# Altium footprint library ConnectorsLib.PcbLib: 142 footprints (part 6 of 9)
Each footprint in its own frame and in the unit in brackets; x right, y up, seen from the top. Pads: shape width x height; smd on the part's side, far side on the other; paste and mask are expansions set on the pad; w line width, h text height; cw(c..) or ccw(c..) is an arc to the next point about the centre after c.
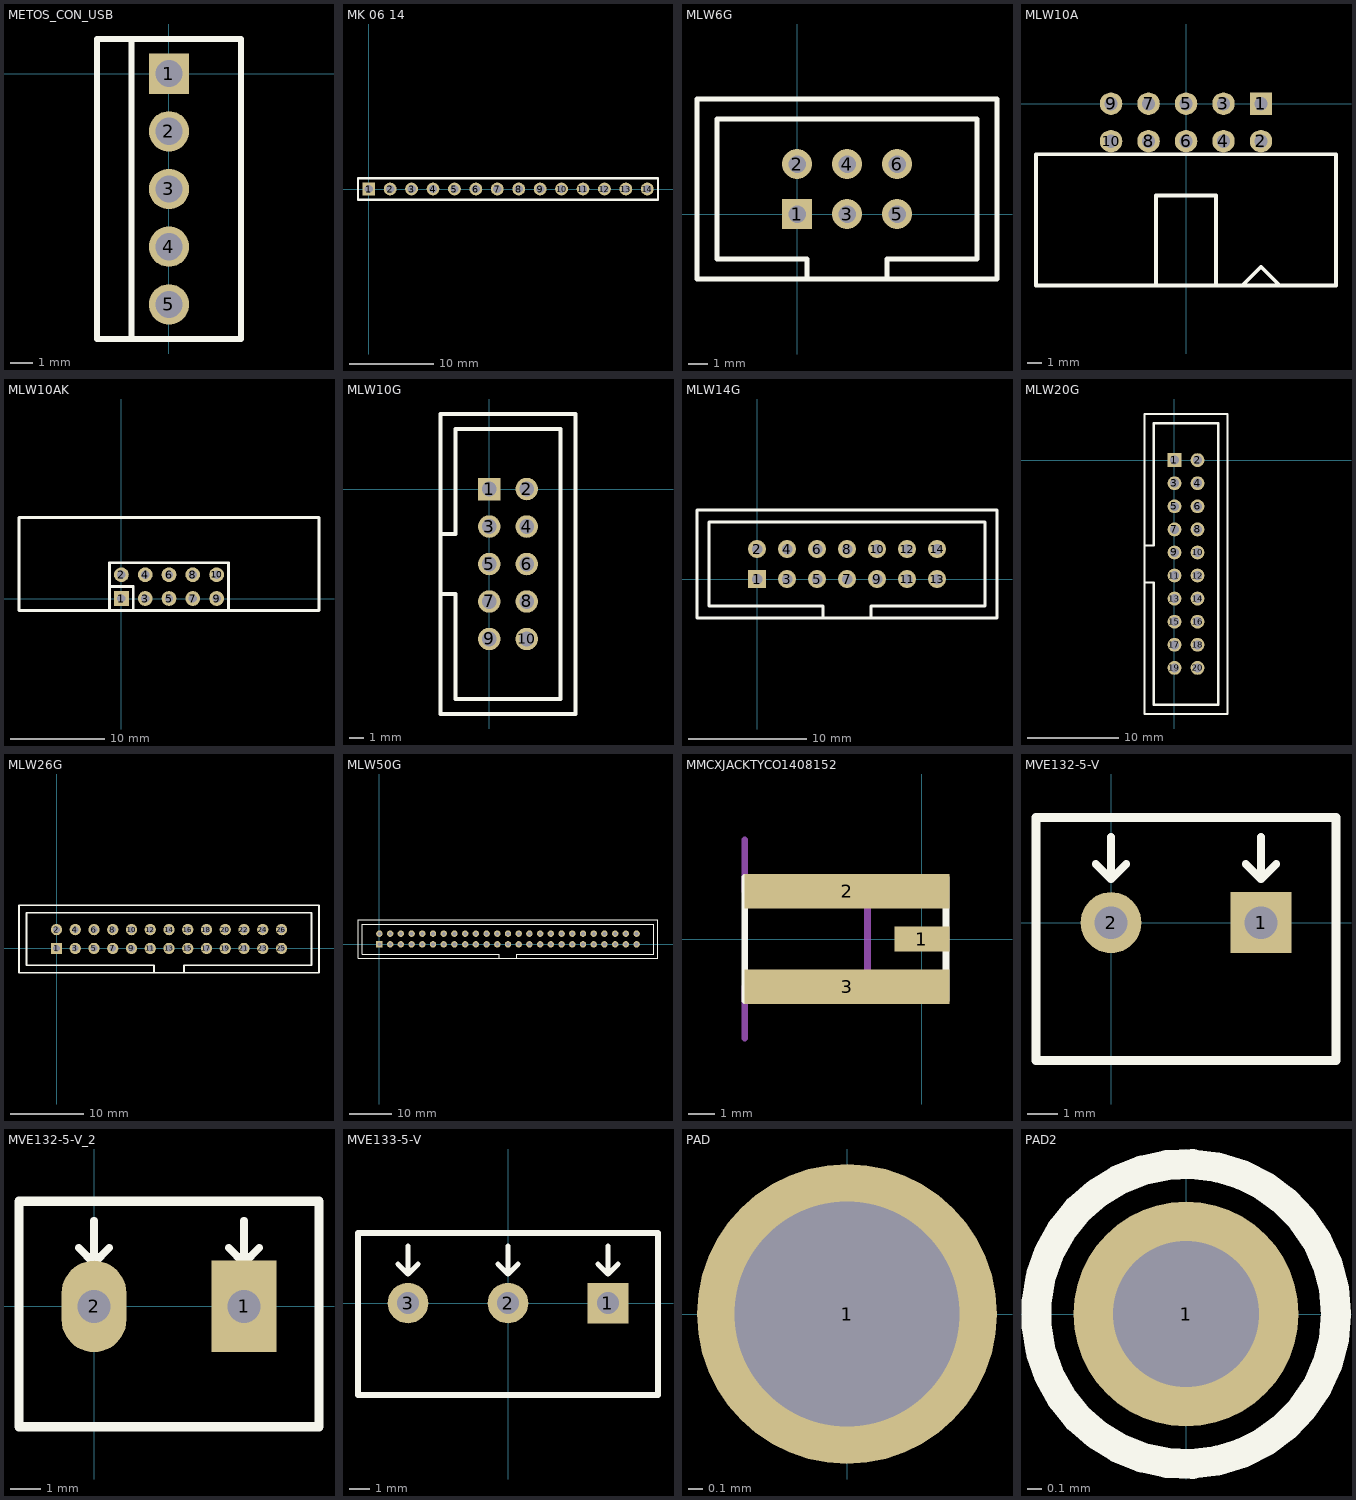
[diagram p5: the footprints below, top view; thin cyan lines are the x and y axes]

## METOS_CON_USB [mil]
pads (5):
  rect 70x70 hole 47: 1(0,0)
  round 70 hole 47: 2(0,-100) 3(0,-200) 4(0,-300) 5(0,-400)
Top Overlay:
  lines w10: -65,-460 -65,60 ; -125,-460 -125,60 125,60 125,-460 -125,-460

## MK 06 14 [mil]
pads (14):
  rect 60x60 hole 39: 1(0,0)
  round 60 hole 39: 2(100,0) 3(200,0) 4(300,0) 5(400,0) 6(500,0) 7(600,0) 8(700,0) 9(800,0) 10(900,0) 11(1000,0) 12(1100,0) 13(1200,0) 14(1300,0)
Top Overlay:
  lines w10: -50,-50 1350,-50 1350,50 -50,50 -50,-50
3D body: height 50, standoff 0, extent 1290,-10.5 1310,9.5
3D body: height 59.84, standoff 40.16, extent 1290,-53.5 1310,9.5
3D body: height 85.36, standoff 14.64, extent 1264.75,-215 1335.34,-183.5
3D body: height 50, standoff 0, extent 1190,-10.5 1210,9.5
3D body: height 59.84, standoff 40.16, extent 1190,-53.5 1210,9.5
3D body: height 85.36, standoff 14.64, extent 1164.75,-215 1235.34,-183.5
3D body: height 50, standoff 0, extent 1090,-10.5 1110,9.5
3D body: height 59.84, standoff 40.16, extent 1090,-53.5 1110,9.5
3D body: height 85.36, standoff 14.64, extent 1064.75,-215 1135.34,-183.5
3D body: height 50, standoff 0, extent 990,-10.5 1010,9.5
3D body: height 59.84, standoff 40.16, extent 990,-53.5 1010,9.5
3D body: height 85.36, standoff 14.64, extent 964.75,-215 1035.34,-183.5
3D body: height 50, standoff 0, extent 890,-10.5 910,9.5
3D body: height 59.84, standoff 40.16, extent 890,-53.5 910,9.5
3D body: height 85.36, standoff 14.64, extent 864.75,-215 935.34,-183.5
3D body: height 50, standoff 0, extent 790,-10.5 810,9.5
3D body: height 59.84, standoff 40.16, extent 790,-53.5 810,9.5
3D body: height 85.36, standoff 14.64, extent 764.75,-215 835.34,-183.5
3D body: height 50, standoff 0, extent 690,-10.5 710,9.5
3D body: height 59.84, standoff 40.16, extent 690,-53.5 710,9.5
3D body: height 85.36, standoff 14.64, extent 664.75,-215 735.34,-183.5
3D body: height 50, standoff 0, extent 590,-10.5 610,9.5
3D body: height 59.84, standoff 40.16, extent 590,-53.5 610,9.5
3D body: height 85.36, standoff 14.64, extent 564.75,-215 635.34,-183.5
3D body: height 50, standoff 0, extent 490,-10.5 510,9.5
3D body: height 59.84, standoff 40.16, extent 490,-53.5 510,9.5
3D body: height 85.36, standoff 14.64, extent 464.75,-215 535.34,-183.5
3D body: height 50, standoff 0, extent 390,-10.5 410,9.5
3D body: height 59.84, standoff 40.16, extent 390,-53.5 410,9.5
3D body: height 85.36, standoff 14.64, extent 364.75,-215 435.34,-183.5
3D body: height 50, standoff 0, extent 290,-10.5 310,9.5
3D body: height 59.84, standoff 40.16, extent 290,-53.5 310,9.5
3D body: height 85.36, standoff 14.64, extent 264.75,-215 335.34,-183.5
3D body: height 50, standoff 0, extent 190,-10.5 210,9.5
3D body: height 59.84, standoff 40.16, extent 190,-53.5 210,9.5
3D body: height 85.36, standoff 14.64, extent 164.75,-215 235.34,-183.5
3D body: height 50, standoff 0, extent 90,-10.5 110,9.5
3D body: height 59.84, standoff 40.16, extent 90,-53.5 110,9.5
3D body: height 85.36, standoff 14.64, extent 64.75,-215 135.34,-183.5
3D body: height 85.36, standoff 14.64, extent -35.25,-215 35.34,-183.5
3D body: height 100, standoff 0, extent -50,-183.5 1350,-53.5
3D body: height 59.84, standoff 40.16, extent -10,-53.5 10,9.5
3D body: height 50, standoff 0, extent -10,-10.5 10,9.5

## MLW6G [mil]
pads (6):
  rect 60x60 hole 35: 1(0,0)
  round 60 hole 35: 2(0,100) 3(100,0) 4(100,100) 5(200,0) 6(200,100)
Top Overlay:
  lines w10: 20,-130 20,-90 -160,-90 -160,190 360,190 360,-90 180,-90 180,-130 ; -200,-130 400,-130 400,230 -200,230 -200,-130

## MLW10A [mil]
pads (10):
  rect 60x60 hole 35: 1(200,0)
  round 60 hole 35: 2(200,-100) 3(100,0) 4(100,-100) 5(0,0) 6(0,-100) 7(-100,0) 8(-100,-100) 9(-200,0) 10(-200,-100)
Top Overlay:
  lines w10: -80,-485 -80,-245 80,-245 80,-485 ; 150,-485 200,-435 250,-485 ; -400,-485 -400,-135 400,-135 400,-485 -400,-485

## MLW10AK [mil]
pads (10):
  rect 62x62 hole 35: 1(0,0)
  round 62 hole 35: 2(0,100) 3(100,0) 4(100,100) 5(200,0) 6(200,100) 7(300,0) 8(300,100) 9(400,0) 10(400,100)
Top Overlay:
  lines w12: -50,50 50,50 50,-50 ; -50,-50 -50,150 450,150 450,-50 ; -50,-50 450,-50 ; -50,-50 -430,-50 -430,340 830,340 830,-50 450,-50

## MLW10G [mil]
pads (10):
  rect 60x60 hole 39: 1(0,0)
  round 60 hole 39: 2(100,0) 3(0,-100) 4(100,-100) 5(0,-200) 6(100,-200) 7(0,-300) 8(100,-300) 9(0,-400) 10(100,-400)
Top Overlay:
  lines w10: -130,-280 -90,-280 -90,-560 190,-560 190,160 -90,160 -90,-120 -130,-120 ; -130,-600 230,-600 230,200 -130,200 -130,-600
3D body: height 90.94, standoff 0, extent -122,-601 -18,201
3D body: height 90.94, standoff 0, extent 118,-601 222,201
3D body: height 90.94, standoff 0, extent -122,-550 222,150
3D body: height 326.77, standoff -3.94, extent -13,-13 13,12.5
3D body: height 326.77, standoff -3.94, extent 87,-13 113,12.5
3D body: height 326.77, standoff -3.94, extent -13,-113 13,-87.5
3D body: height 326.77, standoff -3.94, extent 87,-113 113,-87.5
3D body: height 326.77, standoff -3.94, extent -13,-213 13,-187.5
3D body: height 326.77, standoff -3.94, extent 87,-213 113,-187.5
3D body: height 326.77, standoff -3.94, extent -13,-313 13,-287.5
3D body: height 326.77, standoff -3.94, extent 87,-313 113,-287.5
3D body: height 326.77, standoff -3.94, extent -13,-413 13,-387.5
3D body: height 326.77, standoff -3.94, extent 87,-413 113,-387.5
3D body: height 346.46, standoff 0, extent 172,-601 222,201
3D body: height 346.46, standoff 0, extent -122,-601 -75,-289
3D body: height 346.46, standoff 0, extent -122,-111 -75,201
3D body: height 346.46, standoff 0, extent -122,150 -18,201
3D body: height 346.46, standoff 0, extent 118,150 222,201
3D body: height 346.46, standoff 0, extent 118,-601 222,-550
3D body: height 346.46, standoff 0, extent -122,-601 -18,-550
3D body: height 346.46, standoff 251.97, extent -122,-601 222,-550
3D body: height 346.46, standoff 251.97, extent -122,150 222,201

## MLW14G [mil]
pads (14):
  rect 60x60 hole 35: 1(0,0)
  round 60 hole 35: 2(0,100) 3(100,0) 4(100,100) 5(200,0) 6(200,100) 7(300,0) 8(300,100) 9(400,0) 10(400,100) 11(500,0) 12(500,100) 13(600,0) 14(600,100)
Top Overlay:
  lines w10: 220,-130 220,-90 -160,-90 -160,190 760,190 760,-90 380,-90 380,-130 ; -200,-130 -200,230 800,230 800,-130 -200,-130

## MLW20G [mil]
pads (20):
  rect 60x60 hole 39: 1(0,0)
  round 60 hole 39: 2(100,0) 3(0,-100) 4(100,-100) 5(0,-200) 6(100,-200) 7(0,-300) 8(100,-300) 9(0,-400) 10(100,-400) 11(0,-500) 12(100,-500) 13(0,-600) 14(100,-600) 15(0,-700) 16(100,-700) 17(0,-800) 18(100,-800) 19(0,-900) 20(100,-900)
Top Overlay:
  lines w10: -130,-530 -90,-530 -90,-1060 190,-1060 190,160 -90,160 -90,-370 -130,-370 ; -130,-1100 -130,200 230,200 230,-1100 -130,-1100
3D body: height 346.46, standoff 251.97, extent -122,150 222,201
3D body: height 346.46, standoff 251.97, extent -122,-1101 222,-1050
3D body: height 346.46, standoff 0, extent -122,-1101 -18,-1050
3D body: height 346.46, standoff 0, extent 118,-1101 222,-1050
3D body: height 346.46, standoff 0, extent 118,150 222,201
3D body: height 346.46, standoff 0, extent -122,150 -18,201
3D body: height 346.46, standoff 0, extent -122,-361 -75,201
3D body: height 346.46, standoff 0, extent -122,-1101 -75,-539
3D body: height 346.46, standoff 0, extent 172,-1101 222,201
3D body: height 326.77, standoff -3.94, extent 87,-413 113,-387.5
3D body: height 326.77, standoff -3.94, extent -13,-413 13,-387.5
3D body: height 326.77, standoff -3.94, extent 87,-313 113,-287.5
3D body: height 326.77, standoff -3.94, extent -13,-313 13,-287.5
3D body: height 326.77, standoff -3.94, extent 87,-213 113,-187.5
3D body: height 326.77, standoff -3.94, extent -13,-213 13,-187.5
3D body: height 326.77, standoff -3.94, extent 87,-113 113,-87.5
3D body: height 326.77, standoff -3.94, extent -13,-113 13,-87.5
3D body: height 326.77, standoff -3.94, extent 87,-13 113,12.5
3D body: height 326.77, standoff -3.94, extent -13,-13 13,12.5
3D body: height 90.94, standoff 0, extent -122,-1050 222,150
3D body: height 90.94, standoff 0, extent 118,-1101 222,201
3D body: height 90.94, standoff 0, extent -122,-1101 -18,201
3D body: height 326.77, standoff -3.94, extent -13,-513 13,-487.5
3D body: height 326.77, standoff -3.94, extent 87,-513 113,-487.5
3D body: height 326.77, standoff -3.94, extent -13,-613 13,-587.5
3D body: height 326.77, standoff -3.94, extent 87,-613 113,-587.5
3D body: height 326.77, standoff -3.94, extent -13,-713 13,-687.5
3D body: height 326.77, standoff -3.94, extent 87,-713 113,-687.5
3D body: height 326.77, standoff -3.94, extent -13,-813 13,-787.5
3D body: height 326.77, standoff -3.94, extent 87,-813 113,-787.5
3D body: height 326.77, standoff -3.94, extent 87,-913 113,-887.5
3D body: height 326.77, standoff -3.94, extent -13,-913 13,-887.5

## MLW26G [mil]
pads (26):
  rect 60x60 hole 35: 1(0,0)
  round 60 hole 35: 2(0,100) 3(100,0) 4(100,100) 5(200,0) 6(200,100) 7(300,0) 8(300,100) 9(400,0) 10(400,100) 11(500,0) 12(500,100) 13(600,0) 14(600,100) 15(700,0) 16(700,100) 17(800,0) 18(800,100) 19(900,0) 20(900,100) 21(1000,0) 22(1000,100) 23(1100,0) 24(1100,100) 25(1200,0) 26(1200,100)
Top Overlay:
  lines w10: 520,-130 520,-90 -160,-90 -160,190 1360,190 1360,-90 680,-90 680,-130 ; -200,-130 -200,230 1400,230 1400,-130 -200,-130

## MLW50G [mil]
pads (50):
  rect 60x60 hole 35: 1(0,0)
  round 60 hole 35: 2(0,100) 3(100,0) 4(100,100) 5(200,0) 6(200,100) 7(300,0) 8(300,100) 9(400,0) 10(400,100) 11(500,0) 12(500,100) 13(600,0) 14(600,100) 15(700,0) 16(700,100) 17(800,0) 18(800,100) 19(900,0) 20(900,100) 21(1000,0) 22(1000,100) 23(1100,0) 24(1100,100) 25(1200,0) 26(1200,100) 27(1300,0) 28(1300,100) 29(1400,0) 30(1400,100) 31(1500,0) 32(1500,100) 33(1600,0) 34(1600,100) 35(1700,0) 36(1700,100) 37(1800,0) 38(1800,100) 39(1900,0) 40(1900,100) 41(2000,0) 42(2000,100) 43(2100,0) 44(2100,100) 45(2200,0) 46(2200,100) 47(2300,0) 48(2300,100) 49(2400,0) 50(2400,100)
Top Overlay:
  lines w10: 1120,-130 1120,-90 -160,-90 -160,190 2560,190 2560,-90 1280,-90 1280,-130 ; -200,-130 -200,230 2600,230 2600,-130 -200,-130

## MMCXJACKTYCO1408152 [mil]
pads (3):
  rect 80x36 smd: 1(0,0)
  rect 300x50 smd: 2(-110,70) 3(-110,-70)
Top Overlay:
  lines w10: -260,-90 35,-90 35,90 -260,90 -260,-90
Mechanical 4:
  lines w10: -260,-145 -260,-70 -80,-70 -80,70 -260,70 -260,145
  text "dokonc" at -280,-15 h40

## MVE132-5-V [mil] "Terminal Block 2pol vertival, pitch 5mm"
height 370
pads (2):
  rect 80x80 hole 43: 1(197,0)
  round 80 hole 43: 2(0,0)
Top Overlay:
  lines w10: -20,77 0,57 ; 0,112.5 0,57 ; 20,77 0,57 ; 177,77 197,57 ; 197,112.5 197,57 ; 217,77 197,57
  lines w12: -98.5,-181 295.5,-181 295.5,138 -98.5,138 -98.5,-181
3D body: height 393, standoff -138.5, extent -98,-181 295.7,133.96

## MVE132-5-V_2 [mil] "Terminal Block vertival, pitch 5mm"
height 370
pads (2):
  rect 85x120 hole 43: 1(197,0)
  oval 85x120 hole 43: 2(0,0)
Top Overlay:
  lines w10: -20,77 0,57 ; 0,112.5 0,57 ; 20,77 0,57 ; 177,77 197,57 ; 197,112.5 197,57 ; 217,77 197,57
  lines w12: -98.5,-158 -98.5,138 295.5,138 295.5,-158 -98.5,-158

## MVE133-5-V [mil] "Terminal Block 3pol vertival, pitch 5mm"
height 370
pads (3):
  rect 80x80 hole 43: 1(197,0)
  round 80 hole 43: 2(0,0) 3(-197,0)
Top Overlay:
  lines w10: -217,77 -197,57 ; -197,112.5 -197,57 ; -177,77 -197,57 ; -20,77 0,57 ; 0,112.5 0,57 ; 20,77 0,57 ; 177,77 197,57 ; 197,112.5 197,57 ; 217,77 197,57
  lines w12: -295.5,-181 295.5,-181 295.5,138 -295.5,138 -295.5,-181
3D body: height 393, standoff -138.5, extent -295,-181 98.7,133.96
3D body: height 393, standoff -138.5, extent -98,-181 295.7,133.96

## PAD [mil]
pads (1):
  round 80 hole 60: 1(0,0)

## PAD2 [mil]
pads (1):
  round 60 hole 39: 1(0,0)
Top Overlay:
  circle w8: c0,0 r40